# Altium footprint library SF16_POWER.PcbLib: 34 footprints (part 2 of 3)
Each footprint in its own frame and in the unit in brackets; x right, y up, seen from the top. Pads: shape width x height; smd on the part's side, far side on the other; paste and mask are expansions set on the pad; w line width, h text height; cw(c..) or ccw(c..) is an arc to the next point about the centre after c.
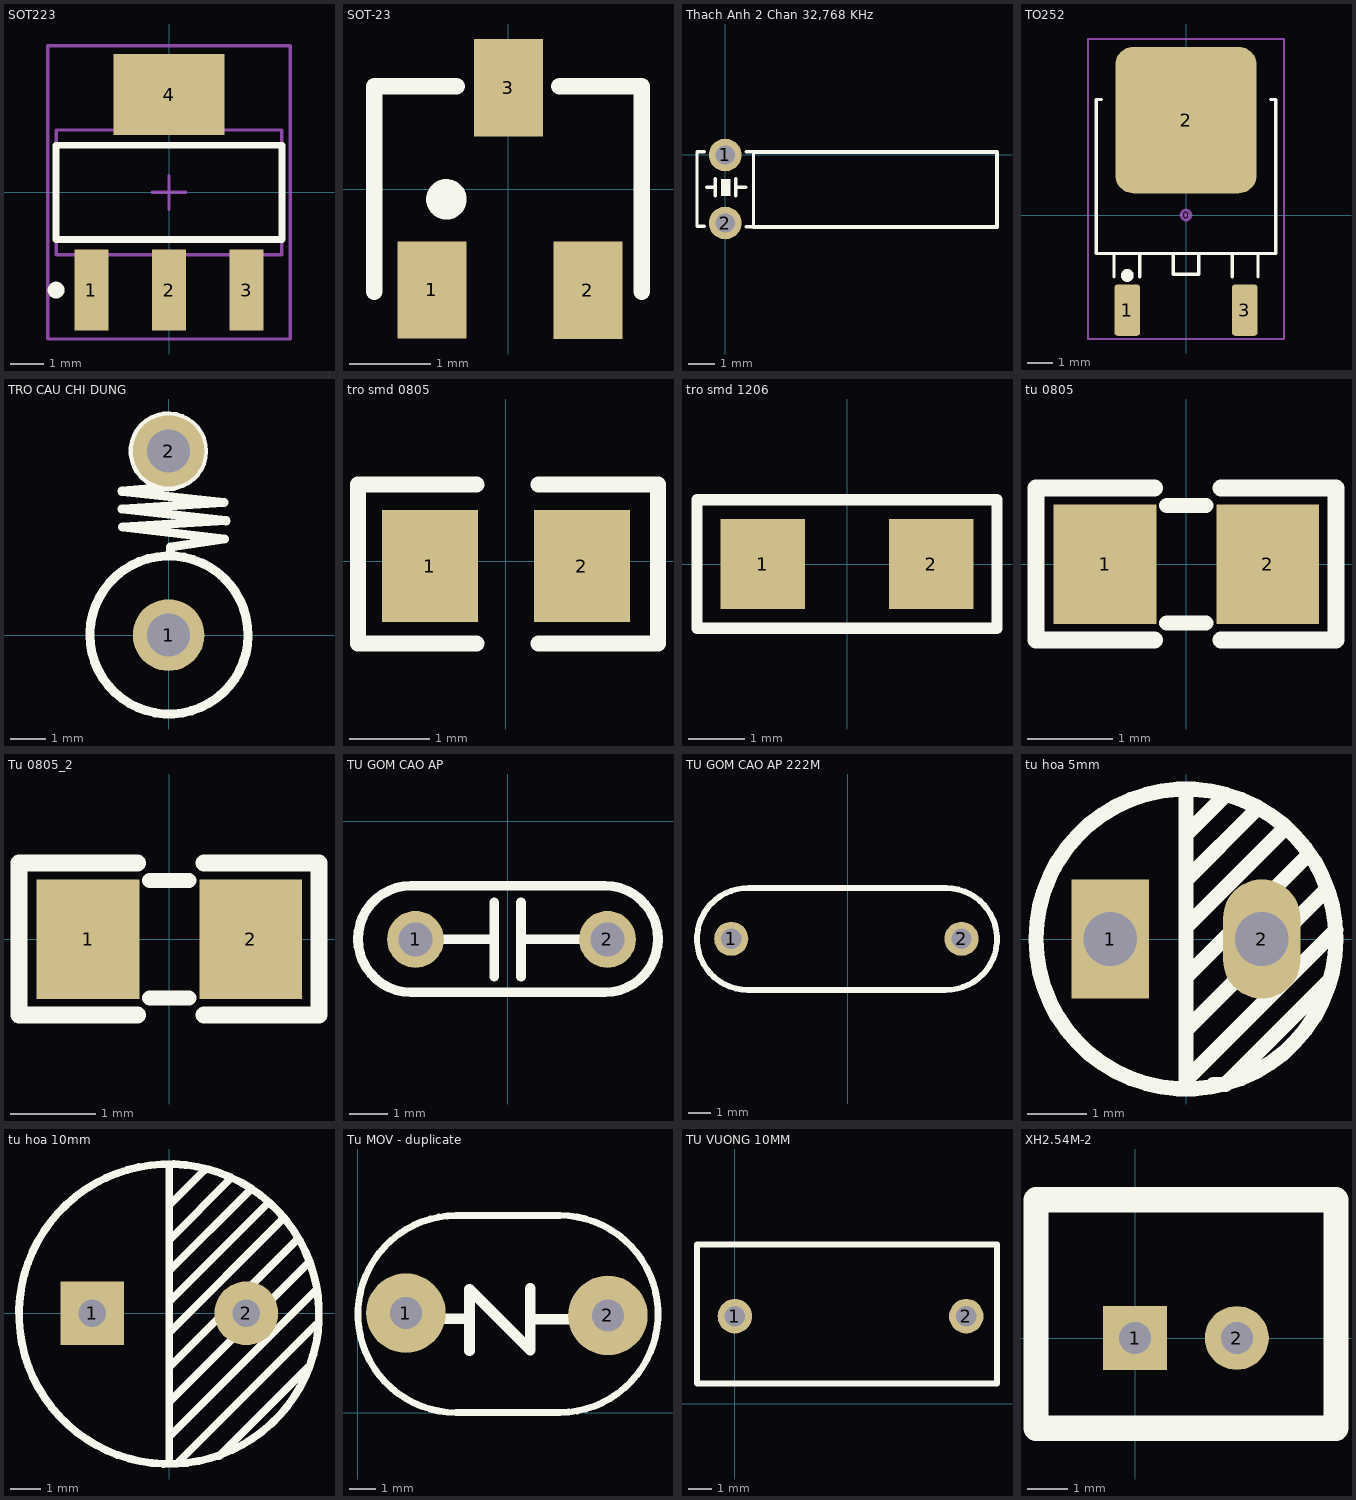
[diagram p1: the footprints below, top view; thin cyan lines are the x and y axes]

## SOT223 [mm]
pads (4):
  rect 1x2.4 smd: 1(-2.3,-2.9) 2(0,-2.9) 3(2.3,-2.9)
  rect 3.3x2.4 smd: 4(0,2.9)
Top Overlay:
  circle w0.25: c-3.35,-2.9 r0.125
  lines w0.2: -3.35,-1.4 3.35,-1.4 3.35,1.4 -3.35,1.4 -3.35,-1.4
Mechanical 13:
  lines w0.1: -3.35,-1.85 3.35,-1.85 3.35,1.85 -3.35,1.85 -3.35,-1.85
Mechanical 15:
  lines w0.1: -0.5,0 0.5,0 ; 0,-0.5 0,0.5 ; -3.6,-4.35 3.6,-4.35 3.6,4.35 -3.6,4.35 -3.6,-4.35
3D body "SW3DPS-SOT-223-DEFAULT.step": height 1.68, standoff 0, extent -3.25,-3.556 3.25,3.404

## SOT-23 [mm] "SOT 23 _ 1-3-2"
height 1.27
pads (3):
  rect 0.85x1.2 smd: 1(-0.94,-1.245) 2(0.985,-1.25) 3(0.005,1.25)
Top Overlay:
  circle w0.25: c-0.76,-0.127 r0.125
  lines w0.203: -1.651,-1.27 -1.651,1.27 -0.635,1.27 ; 0.635,1.27 1.651,1.27 1.651,-1.27
3D body "SW3DPS-SOT-23-DEFAULT.STEP": height 1.06, standoff -0.04, extent -1.475,-1.326 1.525,1.174

## Thach Anh 2 Chan 32,768 KHz [mil]
height 68.9
pads (2):
  round 48 hole 28: 1(0,0) 2(0,-100)
Top Overlay:
  rectangle: -6.5,-60.5 7.5,-35.5
  lines w5: -30.5,-104.5 -41.5,-104.5 -41.5,4.5 -30.5,4.5 ; -27.5,-47.5 -14.5,-47.5 ; -14.5,-60 -14.5,-35 ; 15.5,-60 15.5,-35 ; 15.5,-47.5 30.5,-47.5 ; 30.5,-105.5 41.5,-105.5 41.5,4.5 30.5,4.5
  lines w5.91: 41.5,-105.5 399.44,-105.5 399.44,4.5 41.5,4.5
3D body "User Library-R38_100mils.STEP": height 66.34, standoff -16.34, extent -41.5,-105.12 399.44,5.12

## TO252 [mm] "TO252"
height 1.27
pads (4):
  round 0.5 on Mech15: 0(0,0)
  rrect25% 1x2 smd: 1(-2.285,-3.7) 3(2.285,-3.7)
  rrect25% 5.5x5.7 smd: 2(0,3.7)
Top Overlay:
  circle w0.25: c-2.285,-2.35 r0.125
  lines w0.127: -3.302,4.5 -3.5,4.5 -3.5,-1.5 3.5,-1.5 3.5,4.5 3.302,4.5 ; -2.8,-2.413 -2.8,-1.5 -1.8,-1.5 -1.8,-2.413 ; 1.8,-2.413 1.8,-1.5 2.8,-1.5 2.8,-2.413 ; -0.5,-2.3 0.5,-2.3 0.5,-1.5 -0.5,-1.5 -0.5,-2.3
Mechanical 15:
  lines w0.076: -3.81,-4.826 3.81,-4.826 3.81,6.858 -3.81,6.858 -3.81,-4.826
3D body "DPAK.stp": height 2.31, standoff 0, extent -3.3,-3.951 3.3,5.762

## TRO CAU CHI DUNG [mm]
pads (2):
  round 2 hole 1.2: 1(-0.002,0) 2(-0.002,5.136)
Top Overlay:
  circle w0.15: c-0.009,5.136 r1.036
  lines w0.254: -2.199,-0.004 ccw(c0.008,0.007) -2.198,0.062 ; 0.05,2.225 0.05,2.464 1.55,2.681 -1.284,3.018 1.596,3.194 -1.301,3.519 1.544,3.708 -1.301,4.016 0.136,4.152
3D body "User Library-1W right 100mil.sldprt": height 13.57, standoff -3.5, extent -1.897,-1.552 1.903,3.189

## tro smd 0805 [mm]
height 1.27
pads (2):
  rect 1.2x1.4 smd: 1(-0.946,-0.061) 2(0.954,-0.061)
Top Overlay:
  lines w0.2: -0.367,-1.031 -1.845,-1.031 -1.845,0.961 -0.367,0.961 ; 0.408,-1.031 1.905,-1.031 1.905,0.961 0.408,0.961
3D body "Tro 0805.STEP": height 0.53, standoff 0, extent -1.562,-0.763 1.438,0.637

## tro smd 1206 [mm]
height 1.27
pads (2):
  rect 1.5x1.6 smd: 1(-1.5,0) 2(1.5,0)
Top Overlay:
  lines w0.2: -2.667,-1.143 -2.667,1.143 2.667,1.143 2.667,-1.143 -2.667,-1.143
3D body "Resistor SMD 1206.step": height 0.6, standoff 0, extent -1.6,-0.8 1.6,0.8

## tu 0805 [mm] "Compoment SMD 80x50mil"
height 1.27
pads (2):
  rect 1.2x1.4 smd: 1(-0.946,-0.003) 2(0.954,-0.003)
Top Overlay:
  lines w0.178: -0.224,-0.689 0.233,-0.689 ; -0.224,0.682 0.233,0.682
  lines w0.2: -0.367,-0.889 -1.753,-0.889 -1.753,0.889 -0.367,0.889 ; 0.408,-0.889 1.753,-0.889 1.753,0.889 0.408,0.889
3D body "SW3dPS-smt_resistor_packages.STEP": height 0.61, standoff -0.01, extent -1.006,-0.638 1.014,0.632

## Tu 0805_2 [mm]
pads (2):
  rect 1.2x1.4 smd: 1(-0.946,-0.003) 2(0.954,-0.003)
Top Overlay:
  lines w0.178: -0.224,-0.689 0.233,-0.689 ; -0.224,0.682 0.233,0.682
  lines w0.2: -0.367,-0.889 -1.753,-0.889 -1.753,0.889 -0.367,0.889 ; 0.408,-0.889 1.753,-0.889 1.753,0.889 0.408,0.889
3D body "SW3dPS-smt_resistor_packages.STEP": height 0.61, standoff -0.01, extent -1.006,-0.638 1.014,0.632

## TU GOM CAO AP [mm] "TU GOM CAO AP"
height 1.75
pads (2):
  round 1.5 hole 0.9: 1(-2.431,-3.119) 2(2.631,-3.119)
Top Overlay:
  lines w0.254: -2.431,-3.119 -0.358,-3.119 ; -0.358,-4.1 -0.358,-2.137 ; 0.352,-4.1 0.352,-2.137 ; 0.352,-3.119 2.631,-3.119 ; -2.561,-4.518 cw(c-2.539,-3.109) -2.557,-1.699 2.577,-1.699 cw(c2.554,-3.109) 2.572,-4.518 -2.561,-4.518
3D body "User Library-Cap 100n.step": height 6.12, standoff -1.8, extent -2.893,-3.973 2.946,-2.277

## TU GOM CAO AP 222M [mm] "TU GOM CAO AP"
pads (2):
  round 1.5 hole 0.9: 1(-5.125,-7.375) 2(5,-7.375)
Top Overlay:
  lines w0.254: -4.409,-9.623 cw(c-4.39,-7.385) -4.356,-5.147 4.342,-5.147 cw(c4.322,-7.385) 4.288,-9.623 -4.409,-9.623

## tu hoa 5mm [mm]
height 1.75
pads (2):
  rect 1.3x2 hole 0.9: 1(-1.27,0)
  oval 1.3x2 hole 0.9: 2(1.27,0)
Top Overlay:
  circle w0.254: c0,0 r2.515
  lines w0.254: 0,-2.489 0,2.515 ; 0,-2.362 2.515,0.152 ; 0,-1.549 0,-1.524 2.362,0.838 ; 0,-0.737 0,-0.635 2.007,1.372 ; 0,0.203 1.651,1.854 ; 0,0.965 0,0.991 1.168,2.159 ; 0,1.727 0,1.321 0,1.753 0.61,2.362 ; 0.457,-2.438 0.66,-2.438 2.388,-0.711
3D body "Cap electro 6_3x11x2_5mm.step": height 11.33, standoff -3.21, extent -3.125,-3.175 3.226,3.175

## tu hoa 10mm [mm]
height 1.75
pads (2):
  rect 2.1x2.1 hole 0.9: 1(-2.54,0)
  round 2.1 hole 0.9: 2(2.54,0)
Top Overlay:
  lines w0.254: 0,-4.064 4.826,0.762 ; 0,-3.302 0,-2.921 4.572,1.651 ; 0,-1.905 0,-1.778 4.191,2.413 ; 0,-1.143 0,-0.635 3.683,3.048 ; 0,0.254 0,0.381 3.175,3.556 ; 0,1.397 2.667,4.064 ; 0,1.905 0,2.413 2.032,4.445 ; 0,2.921 0,3.556 1.143,4.699 ; 0,4.826 0,-4.953 0.254,-4.953 4.826,-0.381 ; 1.651,-4.699 4.572,-1.778 ; 3.591,3.365 ccw(c-0.008,-0.022) 3.623,3.33
3D body "User Library-Capacitor Radial Electrolitic 500-1000x2000.step": height 20.01, standoff -2.7, extent -5,-5 4.967,5

## Tu MOV - duplicate [mm]
pads (2):
  round 3 hole 1.2 paste-2539.97 mask+0: 1(1.821,3.753) 2(9.445,3.662)
Top Overlay:
  lines w0.2: 3.009,3.54 4.236,3.54 ; 6.737,3.549 7.965,3.549
  lines w0.254: 3.72,-0.004 cw(c3.736,3.716) 3.72,7.436 7.625,7.436 ; 3.725,0 7.63,0 ccw(c7.615,3.72) 7.63,7.44
  lines w0.406: 2.972,3.54 4.218,3.54 ; 4.218,2.333 4.218,4.655 6.511,2.362 6.511,4.681 ; 6.511,3.522 7.937,3.522
3D body "User Library-final MOV7,5.STEP": height 16.5, standoff -2, extent 0,2.745 11.29,4.595

## TU VUONG 10MM [mm] "Tu gom mini"
pads (2):
  round 1.5 hole 0.9: 1(0,3.81) 2(10.075,3.81)
Top Overlay:
  lines w0.254: -1.65,0.875 11.415,0.875 11.415,6.935 -1.65,6.935 -1.65,0.875

## XH2.54M-2 [mm]
height 1.27
pads (2):
  rect 1.6x1.6 hole 0.8: 1(0,0)
  round 1.6 hole 0.8: 2(2.54,0)
Top Overlay:
  lines w0.635: -2.48,-2.26 -2.48,3.46 5.02,3.46 5.02,-2.26 -2.48,-2.26
3D body "XH2.54M-2.STEP": height 6.91, standoff -1.82, extent -2.48,-2.26 5.02,3.48